# Altium footprint library PCB1.PcbLib: 24 footprints (part 1 of 2)
Each footprint in its own frame and in the unit in brackets; x right, y up, seen from the top. Pads: shape width x height; smd on the part's side, far side on the other; paste and mask are expansions set on the pad; w line width, h text height; cw(c..) or ccw(c..) is an arc to the next point about the centre after c.
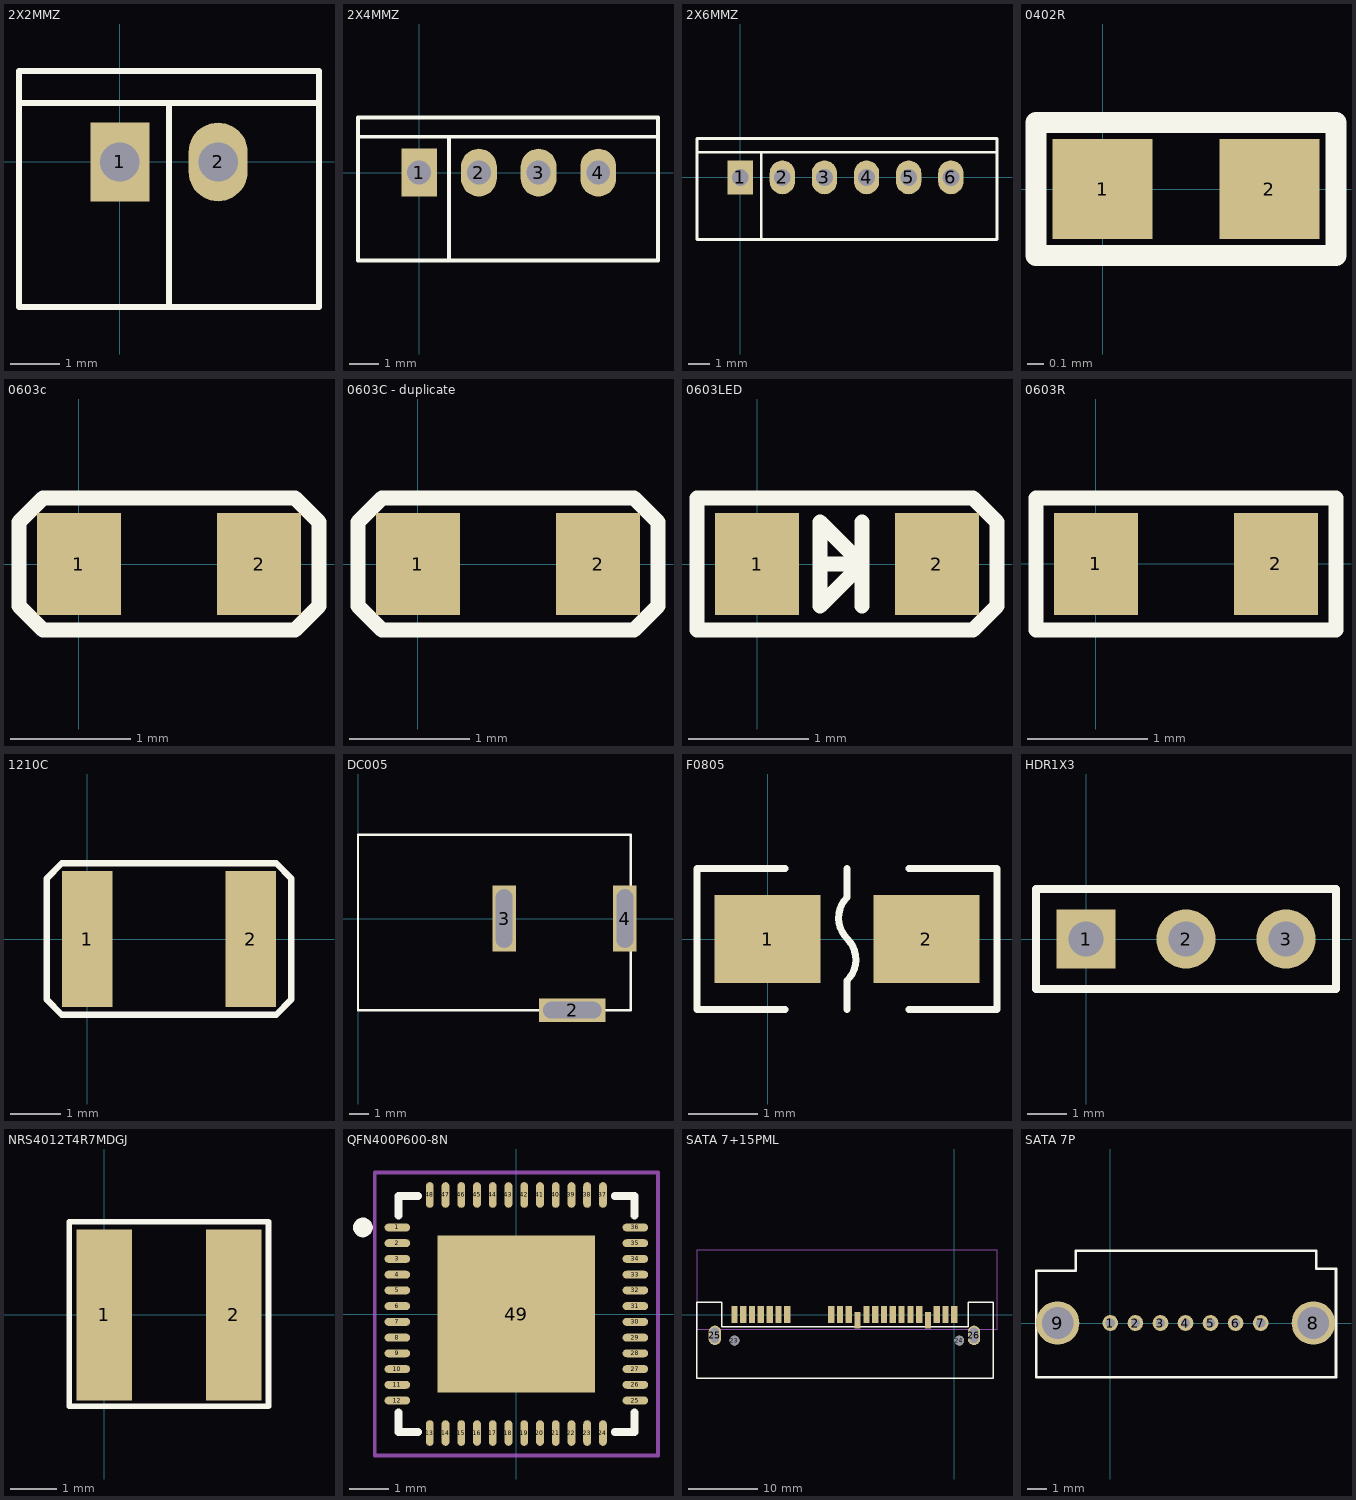
[diagram p0: the footprints below, top view; thin cyan lines are the x and y axes]

## 2X2MMZ [mm]
pads (2):
  rect 1.2x1.6 hole 0.8: 1(0,0)
  oval 1.2x1.6 hole 0.8: 2(2,0)
Top Overlay:
  lines w0.127: -2.05,1.2 4.05,1.2 ; 1,-2.95 1,1.2 ; -2.05,-2.95 -2.05,1.85 4.05,1.85 4.05,-2.95 -2.05,-2.95

## 2X4MMZ [mm]
height 2.65
pads (4):
  rect 1.2x1.6 hole 0.8: 1(0,0)
  oval 1.2x1.6 hole 0.8: 2(2,0) 3(4,0) 4(6,0)
Top Overlay:
  lines w0.127: -2.05,1.2 8.001,1.2 ; 1,-2.95 1,1.2 ; -2.05,-2.95 8.001,-2.95 8.001,1.85 -2.05,1.85 -2.05,-2.95

## 2X6MMZ [mm]
height 2.65
pads (6):
  rect 1.2x1.6 hole 0.8: 1(0,0)
  oval 1.2x1.6 hole 0.8: 2(2,0) 3(4,0) 4(6,0) 5(8,0) 6(10,0)
Top Overlay:
  lines w0.127: -2.05,1.2 12.192,1.2 ; 1,-2.95 1,1.2 ; -2.05,-2.95 12.192,-2.95 12.192,1.85 -2.05,1.85 -2.05,-2.95

## 0402R [mm]
pads (2):
  rect 0.6x0.6 smd: 1(0,0) 2(1,0)
Top Overlay:
  lines w0.127: -0.4,-0.4 -0.4,0.4 1.4,0.4 1.4,-0.4 -0.4,-0.4

## 0603c [mm]
pads (2):
  rect 0.7x0.85 smd: 1(0,0) 2(1.5,0)
Top Overlay:
  lines w0.127: -0.5,-0.35 -0.3,-0.55 1.8,-0.55 2,-0.35 2,0.35 1.8,0.55 -0.3,0.55 -0.5,0.35 -0.5,-0.35

## 0603C - duplicate [mm]
pads (2):
  rect 0.7x0.85 smd: 1(0,0) 2(1.5,0)
Top Overlay:
  lines w0.127: -0.5,-0.35 -0.3,-0.55 1.8,-0.55 2,-0.35 2,0.35 1.8,0.55 -0.3,0.55 -0.5,0.35 -0.5,-0.35

## 0603LED [mm]
height 2.65
pads (2):
  rect 0.7x0.85 smd: 1(0,0) 2(1.5,0)
Top Overlay:
  lines w0.127: 0.525,0 0.875,0 ; 0.875,-0.35 0.875,0.35 ; 0.875,0 0.525,-0.35 0.525,0.35 0.875,0 ; -0.5,-0.55 1.8,-0.55 2,-0.35 2,0.35 1.8,0.55 -0.5,0.55 -0.5,-0.55

## 0603R [mm]
pads (2):
  rect 0.7x0.85 smd: 1(0,0) 2(1.5,0)
Top Overlay:
  lines w0.127: -0.5,-0.55 -0.5,0.55 2,0.55 2,-0.55 -0.5,-0.55

## 1210C [mm]
height 2.65
pads (2):
  rect 1x2.7 smd: 1(0,0) 2(3.25,0)
Top Overlay:
  lines w0.127: -0.8,-1.2 -0.8,1.2 -0.5,1.5 3.75,1.5 4.05,1.2 4.05,-1.2 3.75,-1.5 -0.5,-1.5 -0.8,-1.2

## DC005 [mm]
height 2.65
pads (3):
  rect 3.4x1.2 hole 0.85 slot 3 at 0 deg: 2(11,-4.7)
  rect 1.2x3.4 hole 0.85 slot 3 at 90 deg: 3(7.5,0) 4(13.7,0)
Top Overlay:
  lines w0.127: 0,-4.7 14,-4.7 14,4.3 0,4.3 0,-4.7

## F0805 [mil]
height 104.33
pads (2):
  rect 60x50 smd: 1(0,0) 2(90,0)
Top Overlay:
  lines w3.94: 10,-40 -40,-40 -40,40 10,40 ; 45,-40 45,-23.62 ccw(c33.33,-11.67) 45.28,0 cw(c56.95,11.95) 45,23.62 45,40 ; 80,-40 130,-40 130,40 80,40
3D body: height 19.68, standoff 0, extent 3.63,-23 82.37,24.24

## HDR1X3 [mm] "Connector; Header; 3 Position"
height 2.65
pads (3):
  rect 1.5x1.5 hole 0.9: 1(0,0)
  round 1.5 hole 0.9: 2(2.54,0) 3(5.08,0)
Top Overlay:
  lines w0.2: -1.27,-1.27 -1.27,1.27 6.35,1.27 6.35,-1.27 -1.27,-1.27

## NRS4012T4R7MDGJ [mm]
height 2.65
pads (2):
  rect 1.2x3.7 smd: 1(0,0) 2(2.8,0)
Top Overlay:
  lines w0.127: -0.762,-1.981 3.556,-1.981 3.556,2.019 -0.762,2.019 -0.762,-1.981

## QFN400P600-8N [mm]
height 0.8
pads (57):
  oval 0.65x0.2 smd: 1(-3.025,2.2) 2(-3.025,1.8) 3(-3.025,1.4) 4(-3.025,1) 5(-3.025,0.6) 6(-3.025,0.2) 7(-3.025,-0.2) 8(-3.025,-0.6) 9(-3.025,-1) 10(-3.025,-1.4) 11(-3.025,-1.8) 12(-3.025,-2.2) 25(3.025,-2.2) 26(3.025,-1.8) 27(3.025,-1.4) 28(3.025,-1) 29(3.025,-0.6) 30(3.025,-0.2) 31(3.025,0.2) 32(3.025,0.6) 33(3.025,1) 34(3.025,1.4) 35(3.025,1.8) 36(3.025,2.2)
  oval 0.2x0.65 smd: 13(-2.2,-3.025) 14(-1.8,-3.025) 15(-1.4,-3.025) 16(-1,-3.025) 17(-0.6,-3.025) 18(-0.2,-3.025) 19(0.2,-3.025) 20(0.6,-3.025) 21(1,-3.025) 22(1.4,-3.025) 23(1.8,-3.025) 24(2.2,-3.025) 37(2.2,3.025) 38(1.8,3.025) 39(1.4,3.025) 40(1,3.025) 41(0.6,3.025) 42(0.2,3.025) 43(-0.2,3.025) 44(-0.6,3.025) 45(-1,3.025) 46(-1.4,3.025) 47(-1.8,3.025) 48(-2.2,3.025)
  rect 0x0 smd: 49(-0.85,0) 50(-0.35,0) 51(0,0.85) 52(0,0.35) 53(0.85,0) 54(0.35,0) 55(0,-0.85) 56(0,-0.35)
  rect 4x4 smd: 49(0,0)
Top Overlay:
  circle w0.25: c-3.9,2.2 r0.125
  lines w0.2: -3,-2.5 -3,-3 -2.5,-3 ; -3,2.5 -3,3 -2.5,3 ; 2.5,-3 3,-3 3,-2.5 ; 2.5,3 3,3 3,2.5
Mechanical 15:
  lines w0.1: -0.5,0 0.5,0 ; 0,-0.5 0,0.5 ; -3.6,-3.6 3.6,-3.6 3.6,3.6 -3.6,3.6 -3.6,-3.6

## SATA 7+15PML [mm]
pads (26):
  rect 0.9x2.4 smd: 1(-31.75,0) 2(-30.48,0) 3(-29.21,0) 4(-27.94,0) 5(-26.67,0) 6(-25.4,0) 7(-24.13,0) 8(-17.78,0) 9(-16.51,0) 10(-15.24,0) 11(-13.97,-0.8) 12(-12.7,0) 13(-11.43,0) 14(-10.16,0) 15(-8.89,0) 16(-7.62,0) 17(-6.35,0) 18(-5.08,0) 19(-3.81,-0.8) 20(-2.54,0) 21(-1.27,0) 22(0,0)
  round 1.4 hole 1.4 unplated: 23(-31.75,-3.76) 24(0.72,-3.76)
  oval 1.8x2.8 hole 1.2 slot 2.2 at 90 deg: 25(-34.585,-3) 26(2.835,-3)
Top Overlay:
  lines w0.2: -37.16,-9.222 5.586,-9.222 5.586,1.778 1.993,1.778 1.993,-1.792 -33.567,-1.792 -33.567,1.778 -37.16,1.778 -37.16,-9.222
Mechanical 4:
  lines w0.05: -37.144,-2.118 6.156,-2.118 6.156,9.382 -37.144,9.382 -37.144,-2.118

## SATA 7P [mm]
height 2.65
pads (9):
  round 0.8 hole 0.47: 1(0,0) 2(1.27,0) 3(2.54,0) 4(3.81,0) 5(5.08,0) 6(6.35,0) 7(7.62,0)
  round 2.2 hole 1.6: 8(10.29,0) 9(-2.67,0)
Top Overlay:
  lines w0.127: -3.759,-2.743 -3.759,2.657 -1.759,2.657 -1.759,3.657 10.441,3.657 10.441,2.757 11.441,2.757 11.441,-2.743 -3.759,-2.743